# EAGLE library part LM3886 (library MDB_HOMEBAK)
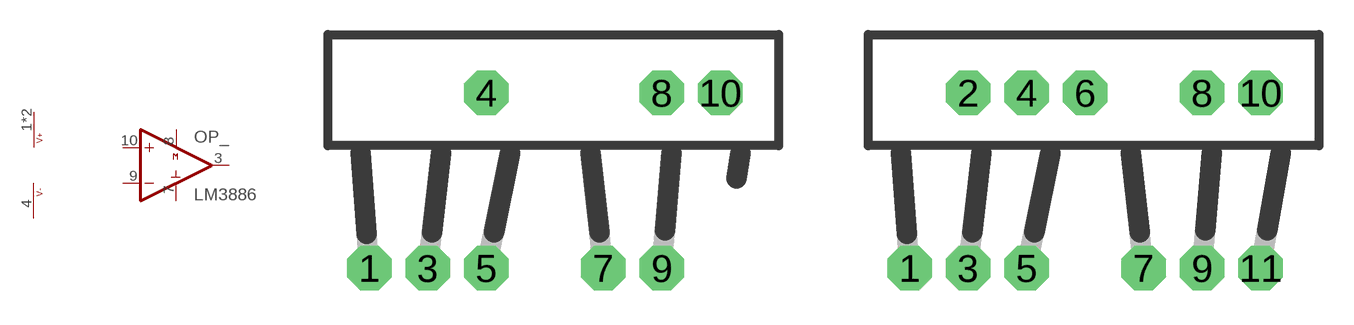
[diagram p48: symbol with the pads of TO-220_FOR_254_NONC; footprints TO-220_FOR_254_NONC, TO_220_FOR_RM254]

Designator prefix OP; gates _=OPAMP_LM3886 G$2=PWR+-

## LM3886_NONC  [TO-220_FOR_254_NONC]
1  G$2:V+  pwr
3  _:OUT  out
4  G$2:V-  pwr
5  G$2:V+  pwr
7  _:GND
8  _:MUTE
9  _:-IN  in
10  _:+IN  in

## LM3886  [TO_220_FOR_RM254]
Pads as for TO-220_FOR_254_NONC

## Footprint TO-220_FOR_254_NONC (pad centres in mm)
drill 1.2 pad 1.93 octagon: 1 -7.62,0; 3 -5.08,0; 4 -2.54,7.62; 5 -2.54,0; 7 2.54,0; 8 5.08,7.62; 9 5.08,0; 10 7.62,7.62

## Footprint TO_220_FOR_RM254 (pad centres in mm)
drill 1.2 pad 1.93 octagon: 1 -7.62,0; 2 -5.08,7.62; 3 -5.08,0; 4 -2.54,7.62; 5 -2.54,0; 6 0,7.62; 7 2.54,0; 8 5.08,7.62; 9 5.08,0; 10 7.62,7.62; 11 7.62,0